# Altium footprint library PCB new.PcbLib: 21 footprints (part 2 of 2)
Each footprint in its own frame and in the unit in brackets; x right, y up, seen from the top. Pads: shape width x height; smd on the part's side, far side on the other; paste and mask are expansions set on the pad; w line width, h text height; cw(c..) or ccw(c..) is an arc to the next point about the centre after c.
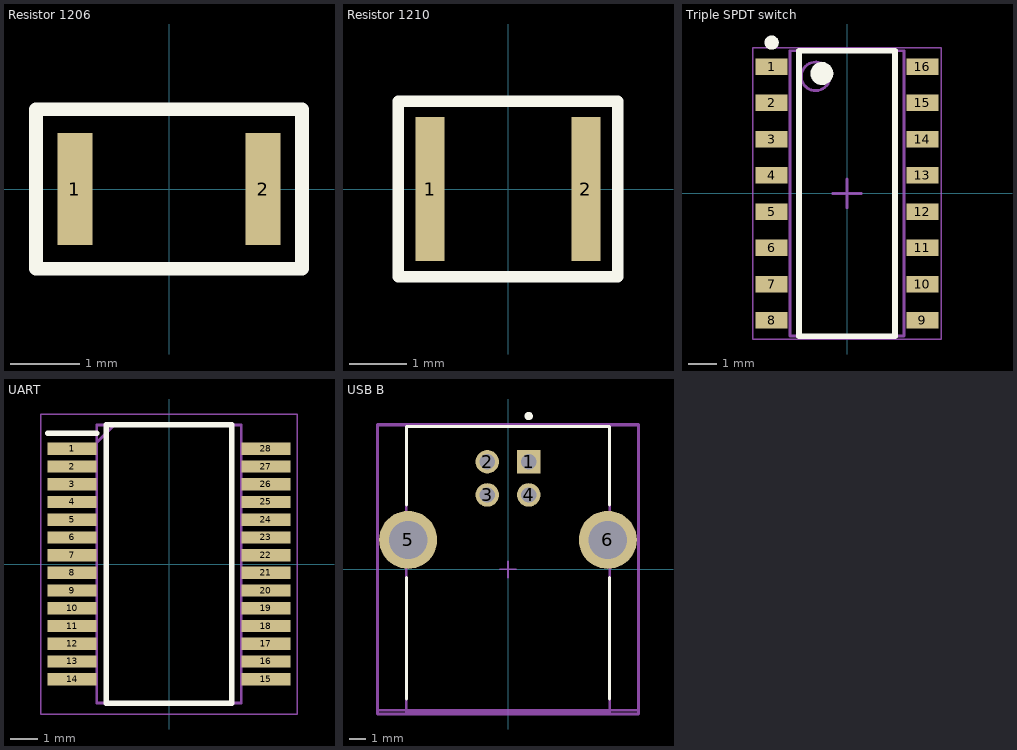
[diagram p1: the footprints below, top view; thin cyan lines are the x and y axes]

## Resistor 1206 [mm]
pads (2):
  rect 0.5x1.6 smd: 1(-1.35,0) 2(1.35,0)
Top Overlay:
  lines w0.2: -1.905,-1.143 -1.905,1.143 1.905,1.143 1.905,-1.143 -1.905,-1.143

## Resistor 1210 [mm]
pads (2):
  rect 0.5x2.5 smd: 1(-1.35,0) 2(1.35,0)
Top Overlay:
  lines w0.2: -1.905,-1.524 1.905,-1.524 1.905,1.524 -1.905,1.524 -1.905,-1.524

## Triple SPDT switch [mm] "SOIC, 16-Leads, Body 10x4mm, Pitch 1.27mm"
height 1.75
pads (16):
  rect 1.12x0.58 smd: 1(-2.64,4.445) 2(-2.64,3.175) 3(-2.64,1.905) 4(-2.64,0.635) 5(-2.64,-0.635) 6(-2.64,-1.905) 7(-2.64,-3.175) 8(-2.64,-4.445) 9(2.64,-4.445) 10(2.64,-3.175) 11(2.64,-1.905) 12(2.64,-0.635) 13(2.64,0.635) 14(2.64,1.905) 15(2.64,3.175) 16(2.64,4.445)
Top Overlay:
  circle w0.25: c-2.64,5.285 r0.125
  circle w0.4: c-0.88,4.2 r0.2
  lines w0.2: -1.68,-5 -1.68,5 1.68,5 1.68,-5 -1.68,-5
Mechanical 13:
  circle w0.1: c-1.1,4.1 r0.5
  lines w0.1: -2,-5 -2,5 2,5 2,-5 -2,-5
Mechanical 15:
  lines w0.05: -3.3,-5.1 -3.3,5.1 3.3,5.1 3.3,-5.1 -3.3,-5.1
  lines w0.1: -0.5,0 0.5,0 ; 0,-0.5 0,0.5
3D body: height 1.75, standoff 0.1, extent -2,-5 2,5

## UART [mm]
pads (28):
  rect 1.8x0.45 smd: 1(-3.55,4.225) 2(-3.55,3.575) 3(-3.55,2.925) 4(-3.55,2.275) 5(-3.55,1.625) 6(-3.55,0.975) 7(-3.55,0.325) 8(-3.55,-0.325) 9(-3.55,-0.975) 10(-3.55,-1.625) 11(-3.55,-2.275) 12(-3.55,-2.925) 13(-3.55,-3.575) 14(-3.55,-4.225) 15(3.55,-4.225) 16(3.55,-3.575) 17(3.55,-2.925) 18(3.55,-2.275) 19(3.55,-1.625) 20(3.55,-0.975) 21(3.55,-0.325) 22(3.55,0.325) 23(3.55,0.975) 24(3.55,1.625) 25(3.55,2.275) 26(3.55,2.925) 27(3.55,3.575) 28(3.55,4.225)
Top Overlay:
  lines w0.2: -4.45,4.8 -2.65,4.8 ; -2.3,-5.1 2.3,-5.1 2.3,5.1 -2.3,5.1 -2.3,-5.1
Mechanical 13:
  lines w0.1: -2.65,4.45 -2,5.1 ; -2.65,-5.1 2.65,-5.1 2.65,5.1 -2.65,5.1 -2.65,-5.1
Mechanical 15:
  lines w0.05: -4.7,-5.5 4.7,-5.5 4.7,5.5 -4.7,5.5 -4.7,-5.5
3D body "FT232RL-TUBE.stp": height 2, standoff 0, extent -3.9,-5.1 3.9,5.1

## USB B [mm]
pads (6):
  rect 1.42x1.42 hole 0.92 paste-1000 mask+0: 1(1.25,6.49)
  round 1.42 hole 0.92 paste-1000 mask+0: 2(-1.25,6.49) 3(-1.25,4.49) 4(1.25,4.49)
  round 3.5 hole 2.3 paste-1000 mask+0: 5(-6.02,1.78) 6(6.02,1.78)
Top Overlay:
  circle w0.25: c1.25,9.25 r0.125
  lines w0.2: -6.125,-7.8 -6.125,-0.5 ; -6.125,3.905 -6.125,8.625 6.125,8.625 6.125,3.905 ; 6.125,-7.8 6.125,-0.5
Mechanical 10:
  lines w0.2: -7.87,-8.725 7.87,-8.725 7.87,8.725 -7.87,8.725 -7.87,-8.725
  text ".Designator" at 0,0 h1
Mechanical 12:
  lines w0.15: -7.87,-8.5 7.87,-8.5 ; -6.125,-8.625 6.125,-8.625 6.125,8.625 -6.125,8.625 -6.125,-8.625
Mechanical 15:
  lines w0.1: -0.5,0 0.5,0 ; 0,-0.5 0,0.5
  lines w0.2: -7.87,-8.725 7.87,-8.725 7.87,8.725 -7.87,8.725 -7.87,-8.725
3D body "Conn_Molex_67068-8000_eec.STEP": height 0.25, standoff 0, extent -7.87,-8.725 7.87,8.725